# EAGLE library part ADS1232 (library RobThePyro)
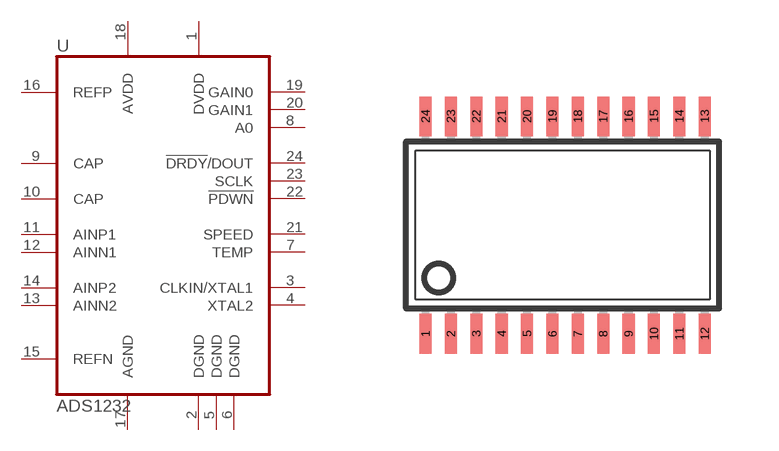
[diagram p3: symbol with the pads of TSSOP024; footprint TSSOP024]

Designator prefix -

## ADS1232  [TSSOP024]
1  DVDD  pwr
2  DGND  pwr
3  CLKIN/XTAL1  in
4  XTAL2  in
5  DGND  pwr
6  DGND  pwr
7  TEMP  in
8  A0  in
9  CAP  pas
10  CAP  pas
11  AINP1  in
12  AINN1  in
13  AINN2  in
14  AINP2  in
15  REFN  in
16  REFP  in
17  AGND  pwr
18  AVDD  pwr
19  GAIN0  in
20  GAIN1  in
21  SPEED  in
22  !PDWN  in
23  SCLK  in
24  !DRDY!/DOUT  out

## Footprint TSSOP024 (pad centres in mm)
Thin Shrink Small Outline Package
smd 0.305 x 0.991: 1 -3.493,-2.718; 2 -2.857,-2.718; 3 -2.223,-2.718; 4 -1.587,-2.718; 5 -0.953,-2.718; 6 -0.318,-2.718; 7 0.318,-2.718; 8 0.953,-2.718; 9 1.587,-2.718; 10 2.223,-2.718; 11 2.857,-2.718; 12 3.493,-2.718; 13 3.493,2.718; 14 2.857,2.718; 15 2.223,2.718; 16 1.587,2.718; 17 0.953,2.718; 18 0.318,2.718; 19 -0.318,2.718; 20 -0.953,2.718; 21 -1.587,2.718; 22 -2.223,2.718; 23 -2.857,2.718; 24 -3.493,2.718